# EAGLE library part UCC27524DGN (library 3D_MIG_Controller)
Gate Driver, Dual Channel, Noninverting, VSSOP-8 exposed pad, Texas Instruments
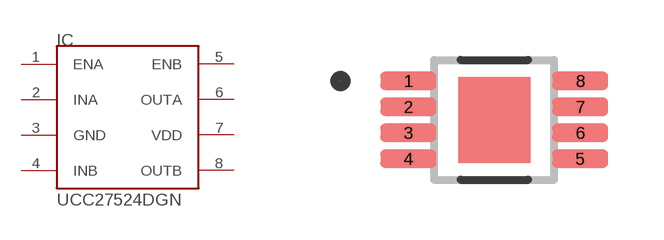
[diagram p66: symbol with the pads of VSSOP-8; footprint VSSOP-8]

Designator prefix IC

## UCC27524DGNVSS  [VSSOP-8]
1  ENA
2  INA
3  GND
4  INB
5  ENB
6  OUTA
7  VDD
8  OUTB

## Footprint VSSOP-8 (pad centres in mm)
smd 1.4 x 0.45: 1 -2.151,0.975; 2 -2.151,0.325; 3 -2.151,-0.325; 4 -2.151,-0.975; 5 2.151,-0.975; 6 2.151,-0.325; 7 2.151,0.325; 8 2.151,0.975